# Altium schematic symbol library DG127-5.08-02P-14-1000AH.SchLib: 1 symbol
Pins are listed as number, name and electrical type; pins without a type are passive.

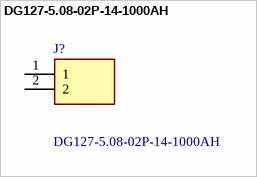
[diagram p0: symbol DG127-5.08-02P-14-1000AH]

## DG127-5.08-02P-14-1000AH
designator J?
PCB terminal block; angled 90; 5.08mm; ways: 2; on PCBs; 1.5mm2; Manufacturer_Name: Degson; Geometry.Height: 10.22mm; Manufacturer_Part_Number: DG127-5.08-02P-14-1000AH; Mouser Part Number: *; Mouser Price/Stock: *; Arrow Part Number: *; Arrow Price/Stock: *; Datasheet Link: https://www.degson.com/index.php?a=downloadFile&id=1098464&name=%27ZmlsZTQ=%27&lang=en
footprint DG12750802P141000AH
pins: 1, 2